# Altium schematic symbol library Proj_SchLib.SchLib: 4 symbols
Pins are listed as number, name and electrical type; pins without a type are passive.

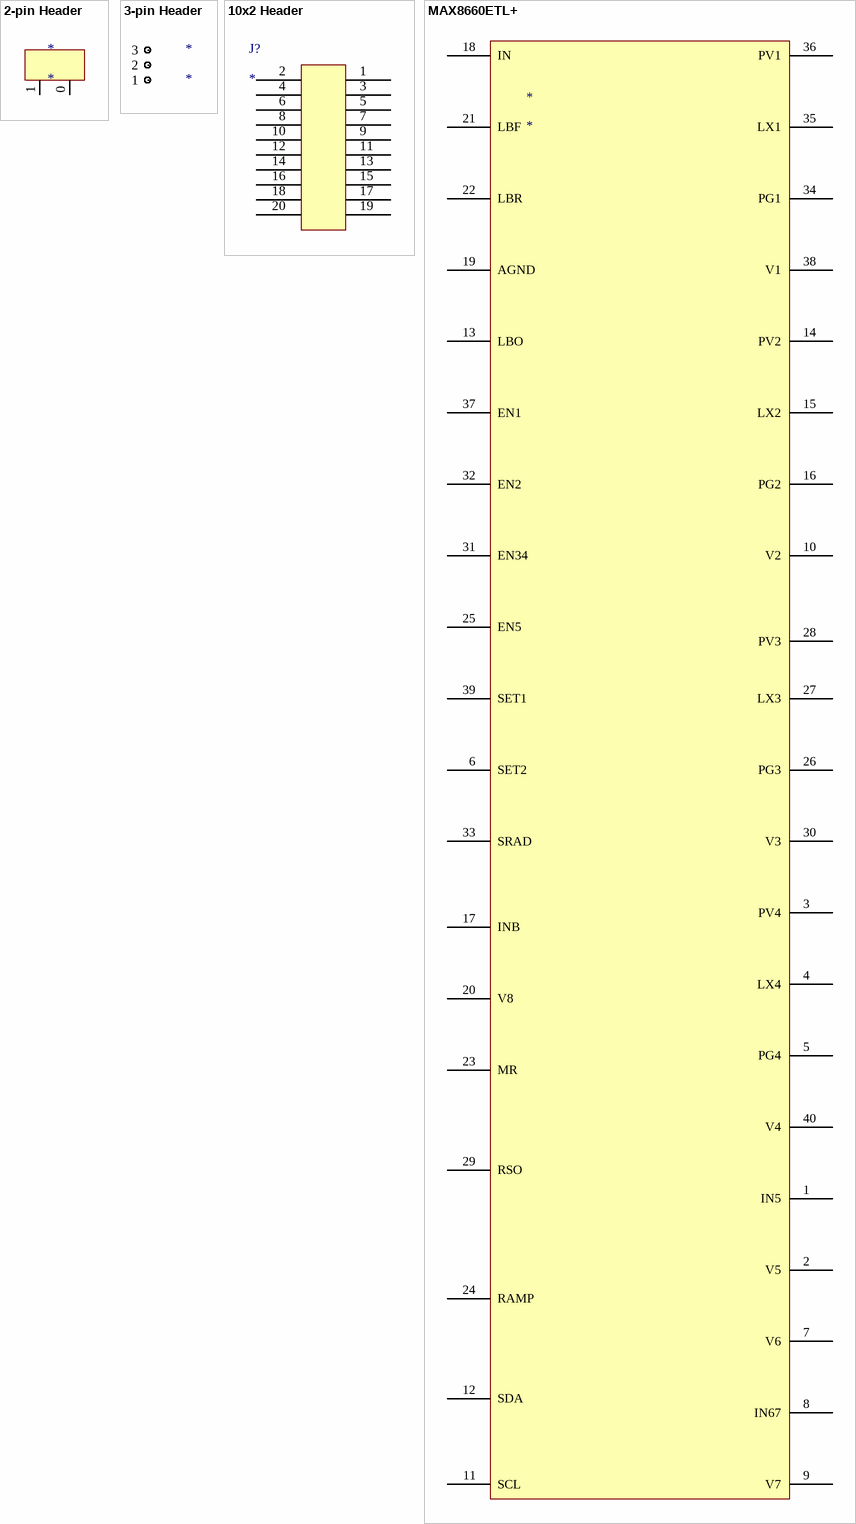
[diagram p0: symbols 2-pin Header to MAX8660ETL+]

## 2-pin Header
designator *
pins: 0, 1

## 3-pin Header
designator *
pins: 1, 2, 3

## 10x2 Header
designator J?
pins: 1 0, 2 1, 3 2, 4 3, 5 4, 6 5, 7 6, 8 7, 9 8, 10 9, 11 10, 12 11, 13 12, 14 13, 15 14, 16 15, 17 16, 18 17, 19 18, 20 19

## MAX8660ETL+
designator *
pins: 1 IN5, 2 V5, 3 PV4, 4 LX4, 5 PG4, 6 SET2, 7 V6, 8 IN67, 9 V7, 10 V2, 11 SCL, 12 SDA, 13 LBO, 14 PV2, 15 LX2, 16 PG2, 17 INB, 18 IN, 19 AGND, 20 V8, 21 LBF, 22 LBR, 23 MR, 24 RAMP, 25 EN5, 26 PG3, 27 LX3, 28 PV3, 29 RSO, 30 V3, 31 EN34, 32 EN2, 33 SRAD, 34 PG1, 35 LX1, 36 PV1, 37 EN1, 38 V1, 39 SET1, 40 V4